# Altium schematic symbol library RNF14FTD100R.SchLib: 2 symbols
Pins are listed as number, name and electrical type; pins without a type are passive.

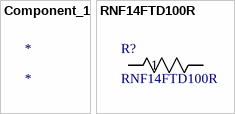
[diagram p0: symbols Component_1 to RNF14FTD100R]

## Component_1
designator *

## RNF14FTD100R
designator R?
No Description Available; Mfr_Name: Stackpole International; Copyright: Copyright (C) 2024 Ultra Librarian. All rights reserved.; Manufacturer_Part_Number: RNF14FTD100R; RefDes: RefDes; Type: DEV
footprint STA_RNF14_STP
pins: 1, 2